# EAGLE library part LOXONE_RELAYEXTENSION (library loxone)
Loxone Relay Extension
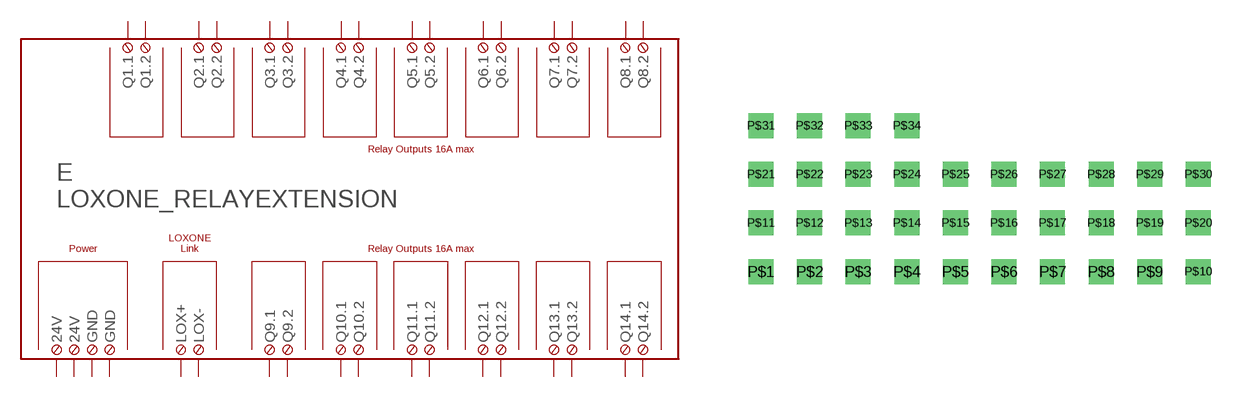
[diagram p1: symbol with the pads of LOXONE_RELAYEXTENSION_DUMMY; footprint LOXONE_RELAYEXTENSION_DUMMY]

Designator prefix E

## LOXONE_RELAYEXTENSION  [LOXONE_RELAYEXTENSION_DUMMY]
P$1  24V.1  pas
P$2  24V.2  pas
P$3  GND.1  pas
P$4  GND.2  pas
P$5  LOX+  pas
P$6  LOX-  pas
P$7  Q1.1  pas
P$8  Q1.2  pas
P$9  Q2.1  pas
P$10  Q2.2  pas
P$11  Q3.1  pas
P$12  Q3.2  pas
P$13  Q4.1  pas
P$14  Q4.2  pas
P$15  Q5.1  pas
P$16  Q5.2  pas
P$17  Q6.1  pas
P$18  Q6.2  pas
P$19  Q7.1  pas
P$20  Q7.2  pas
P$21  Q8.1  pas
P$22  Q8.2  pas
P$23  Q9.1  pas
P$24  Q9.2  pas
P$25  Q10.1  pas
P$26  Q10.2  pas
P$27  Q11.1  pas
P$28  Q11.2  pas
P$29  Q12.1  pas
P$30  Q12.2  pas
P$31  Q13.1  pas
P$32  Q13.2  pas
P$33  Q14.1  pas
P$34  Q14.2  pas

## Footprint LOXONE_RELAYEXTENSION_DUMMY (pad centres in mm)
drill 0.8 square: P$1 0,0; P$2 2.54,0; P$3 5.08,0; P$4 7.62,0; P$5 10.16,0; P$6 12.7,0; P$7 15.24,0; P$8 17.78,0; P$9 20.32,0; P$10 22.86,0; P$11 0,2.54; P$12 2.54,2.54; P$13 5.08,2.54; P$14 7.62,2.54; P$15 10.16,2.54; P$16 12.7,2.54; P$17 15.24,2.54; P$18 17.78,2.54; P$19 20.32,2.54; P$20 22.86,2.54; P$21 0,5.08; P$22 2.54,5.08; P$23 5.08,5.08; P$24 7.62,5.08; P$25 10.16,5.08; P$26 12.7,5.08; P$27 15.24,5.08; P$28 17.78,5.08; P$29 20.32,5.08; P$30 22.86,5.08; P$31 0,7.62; P$32 2.54,7.62; P$33 5.08,7.62; P$34 7.62,7.62